# EAGLE library part COMPARATOR:ADCMP572-3(0.15NS-PECL) (library QuantumOptics)
ADCMP572-3 Comparator, Analog Devices, PECL/CML, 150pS. e.g. http://www.analog.com/UploadedFiles/Data_Sheets/ADCMP572_573.pdf
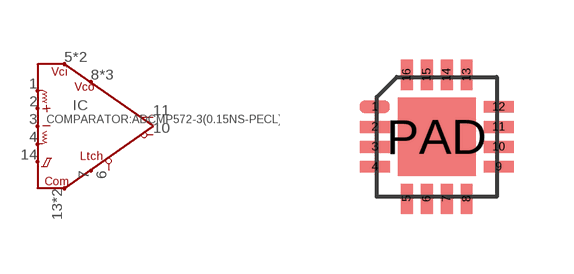
[diagram p90: symbol with the pads of LFCSP-16; footprint LFCSP-16]

Designator prefix IC

## COMPARATOR:ADCMP572-3(0.15NS-PECL)-LFCSP16  [LFCSP-16]
1  VPT
2  VP
3  VN
4  VNT
5  VCCI1
6  LE-  in
7  LE+  in
8  VCCO
9  VCCO
10  Q-
11  Q+
12  VCCO
13  COM
14  HYS
15  COM
16  VCCI1

## Footprint LFCSP-16 (pad centres in mm)
LFCSP-16, Lead Frame Chip Scale Package with 16 pins. NOTE: Try to connect centre pad to bottom ground plane with at least 4 vias! Use grid of 0.5mm (or 0.0125"). Based on Analog Devices ADCMP572-3, http://www.analog.com/UploadedFiles/Data_Sheets/ADCMP572_573.pdf
smd 0.75 x 0.3: 1 0,0; 2 0,-0.5; 3 0,-1; 4 0,-1.5; 9 3.1,-1.5; 10 3.1,-1; 11 3.1,-0.5; 12 3.1,0
smd 0.3 x 0.75: 5 0.8,-2.3; 6 1.3,-2.3; 7 1.8,-2.3; 8 2.3,-2.3; 13 2.3,0.8; 14 1.8,0.8; 15 1.3,0.8; 16 0.8,0.8
smd 1.95 x 1.95: PAD 1.55,-0.75